# Altium schematic symbol library W25Q40EWUXIE_TR.SchLib: 1 symbol
Pins are listed as number, name and electrical type; pins without a type are passive.

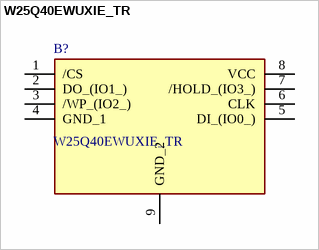
[diagram p0: symbol W25Q40EWUXIE_TR]

## W25Q40EWUXIE_TR
designator B?
NOR Flash spiFlash, 1.8V 4M-bit, 4Kb Uniform Sector; Manufacturer_Name: Winbond; Manufacturer_Part_Number: W25Q40EWUXIE TR; Geometry.Height: 0.6mm; Mouser Part Number: 454-W25Q40EWUXIETR; Mouser Price/Stock: https://www.mouser.co.uk/ProductDetail/Winbond/W25Q40EWUXIE-TR?qs=qSfuJ%252Bfl%2Fd5fDNE4rBAmrw%3D%3D; Datasheet Link: https://www.winbond.com/resource-files/w25q40ewrevf11252015sfdp.pdf
footprint SON50P300X200X60-9N
pins: 1 /CS, 2 DO_(IO1_), 3 /WP_(IO2_), 4 GND_1, 5 DI_(IO0_), 6 CLK, 7 /HOLD_(IO3_), 8 VCC, 9 GND_2